# Altium schematic symbol library MORNTA1001AT5.SchLib: 1 symbol
Pins are listed as number, name and electrical type; pins without a type are passive.

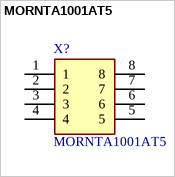
[diagram p0: symbol MORNTA1001AT5]

## MORNTA1001AT5
designator X?
1k Ohm +/-0.1% 50mW Power Per Element Isolated 4 Resistor Network/Array +/-25ppm/C 8-TSSOP, 8-MSOP (0.118", 3.00mm Width); Manufacturer_Name: Vishay; Geometry.Height: 1.1mm; Manufacturer_Part_Number: MORNTA1001AT5; Mouser Part Number: 71-MORNTA1001AT5; Mouser Price/Stock: https://www.mouser.co.uk/ProductDetail/Vishay-Thin-Film/MORNTA1001AT5?qs=mlqvmmZDxoUQbRHGbp0kiA%3D%3D; Arrow Part Number: *; Arrow Price/Stock: *; Datasheet Link: https://www.vishay.com/docs/60129/morn.pdf
footprint MORNTA1001AT5
pins: 1, 2, 3, 4, 5, 6, 7, 8